# EAGLE library part TEN_50-2411WI (library TEN_50-2411WI)
50 Watt DC/DC converter, industrial, 4:1 input, encapsulated, 2" x 1" metal package Source: Datasheet <https://tracopower.com/ten50wi-datasheet/>
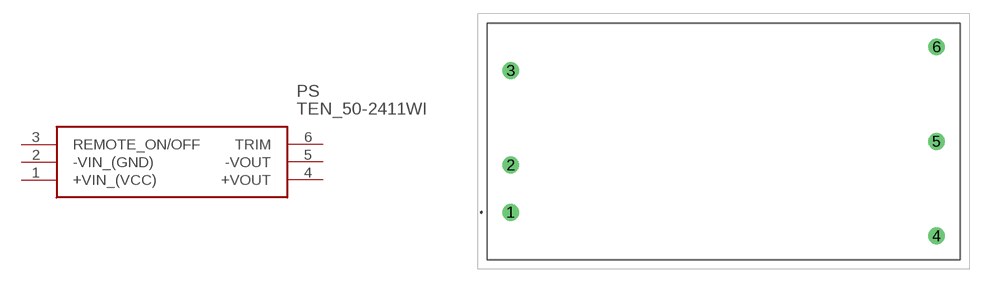
[diagram p0: symbol with the pads of TEN502411WI; footprint TEN502411WI]

Designator prefix PS

## TEN_50-2411WI (Description: 50 Watt DC/DC converter, industrial, 4:1 input, encapsulated, 2" x 1" metal package; Height: 11.25mm; Manufacturer_Name: Traco Power; Manufacturer_Part_Number: TEN 50-2411WI; Mouser_Part_Number: 495-TEN50-2411WI; Mouser_Price-Stock: https://www.mouser.co.uk/ProductDetail/TRACO-Power/TEN-50-2411WI?qs=ckJk83FOD0X9tzvZCD0OJQ%3D%3D)  [TEN502411WI]
1  +VIN_(VCC)
2  -VIN_(GND)
3  REMOTE_ON/OFF
4  +VOUT
5  -VOUT
6  TRIM

## Footprint TEN502411WI (pad centres in mm)
TEN 50WI Series
drill 1.2 pad 1.8: 1 0,0; 2 0,5.08; 3 0,15.24; 4 45.72,-2.54; 5 45.72,7.62; 6 45.72,17.78